# Altium integrated library Rosenberger Micro-RF.IntLib: 2 symbols
Pins are listed as number, name and electrical type; pins without a type are passive.

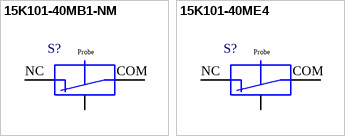
[diagram p0: symbols 15K101-40MB1-NM to 15K101-40ME4]

## 15K101-40MB1-NM
designator S?
Micro-RF Test Switch, Straight, SP2T, Up to 6 GHz, -40 to 90 degC; PartNumber: 15K101-40MB1-NM; Design Note: Footprint in library is a generic example - only application specific footprint delivers High Performance; DatasheetVersion: c00; PackageVersion: c00; PackageReference: 15K101-40MB1-NM; PackageDescription: Micro-RF Test Switch, 2.20 x 2.10 x 1.52 mm; Mounting Technology: Surface Mount; ComponentLink1Description: Manufacturer URL; ComponentLink1URL: http://www.rosenberger.de; ComponentLink2Description: Datasheet; ComponentLink2URL: http://rosenberger.de/ok/images/documents/db/15K101-40MB1-NM.pdf; ComponentLink3Description: Package Specification; ComponentLink3URL: http://rosenberger.de/ok/images/documents/db/15K101-40MB1-NM.pdf; ComponentLink4Description: Series Overview / Design Note; ComponentLink4URL: http://rosenberger.de/ok/images/documents/spez/15.pdf; ComponentLink5Description: Webshop / RFQ; ComponentLink5URL: http://www.rosenberger.com/en/contact/sales/
footprint ROS-15K101-40MB1-NM_V (Micro-RF Straight Test Switch, 2.20x2.10x1.52mm, Rosenberger Recommended)
pins: 1 NC, 2 COM (power), MP
text: Probe

## 15K101-40ME4
designator S?
Micro-RF Test Switch, Straight, SP2T, High Power, Up to 6 GHz, -40 to 90 degC; PartNumber: 15K101-40ME4; Design Note: Footprint in library is a generic example - only application specific footprint delivers High Performance; DatasheetVersion: e00; PackageVersion: e00; PackageReference: 15K101-40ME4; PackageDescription: Micro-RF Test Switch, 2.20 x 2.10 x 1.52 mm; Mounting Technology: Surface Mount; ComponentLink1Description: Manufacturer URL; ComponentLink1URL: http://www.rosenberger.de; ComponentLink2Description: Datasheet; ComponentLink2URL: http://rosenberger.de/ok/images/documents/db/15K101-40ME4.pdf; ComponentLink3Description: Package Specification; ComponentLink3URL: http://rosenberger.de/ok/images/documents/db/15K101-40ME4.pdf; ComponentLink4Description: Series Overview / Design Note; ComponentLink4URL: http://rosenberger.de/ok/images/documents/spez/15.pdf; ComponentLink5Description: Webshop / RFQ; ComponentLink5URL: http://www.rosenberger.com/en/contact/sales/
footprint ROS-15K101-40ME4_V (Micro-RF Straight Test Switch, 2.20x2.10x1.52mm, Rosenberger Recommended)
pins: 1 NC, 2 COM (power), MP
text: Probe